# Altium schematic symbol library Triac.Schlib: 1 symbol
Pins are listed as number, name and electrical type; pins without a type are passive.

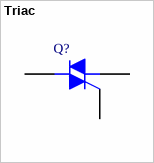
[diagram p0: symbol Triac]

## Triac
designator Q?
Silicon Bidirectional Triode Thyristor
pins: 1 M1, 2 M2, 3 G